# EAGLE library part ARJ11G-MBSE-MU2 (library Modular Jacks)
CONN MAGJACK 1PORT 100 BASE-T Manufacturer's datasheet <https://media.digikey.com/pdf/Data%20Sheets/Abracon%20Corp%20PDFs/ARJ11G-MB_Dwg.PDF>
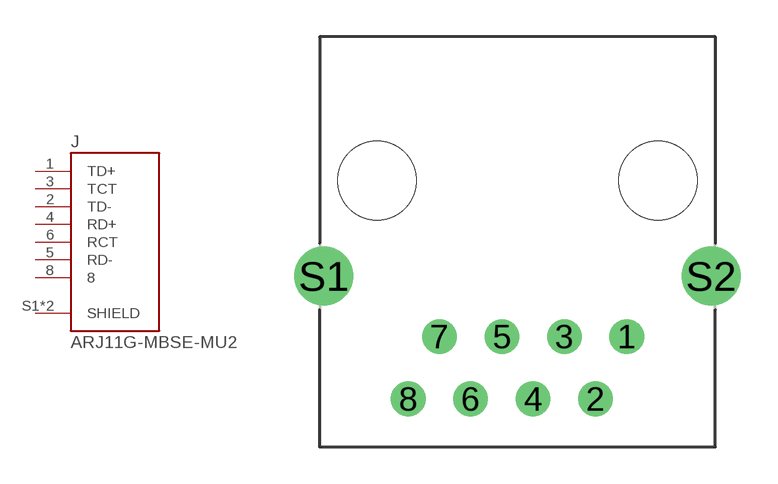
[diagram p11: symbol with the pads of ARJ11G-MBSE-MU2; footprint ARJ11G-MBSE-MU2]

Designator prefix J

## ARJ11G-MBSE-MU2 (CREATED_BY: PCBLayout.com; DIGIKEY_PN: ARJ11G-MBSE-MU2-ND; MANUFACTURER: Abracon LLC; MPN: ARJ11G-MBSE-MU2)  [ARJ11G-MBSE-MU2]
1  TD+  pas
2  TD-  pas
3  TCT  pas
4  RD+  pas
5  RD-  pas
6  RCT  pas
8  8  pas
S1  SHIELD  pwr
S2  SHIELD  pwr

## Footprint ARJ11G-MBSE-MU2 (pad centres in mm)
drill 0.9: 1 4.445,0; 2 3.175,-2.54; 3 1.905,0; 4 0.635,-2.54; 5 -0.635,0; 6 -1.905,-2.54; 7 -3.175,0; 8 -4.445,-2.54
drill 1.6: S1 -7.875,2.46; S2 7.875,2.46
hole 3.2 at -5.715,6.35
hole 3.2 at 5.715,6.35